# Altium footprint library ATK-2014-09-12.PcbLib: 439 footprints (part 25 of 28)
Each footprint in its own frame and in the unit in brackets; x right, y up, seen from the top. Pads: shape width x height; smd on the part's side, far side on the other; paste and mask are expansions set on the pad; w line width, h text height; cw(c..) or ccw(c..) is an arc to the next point about the centre after c.
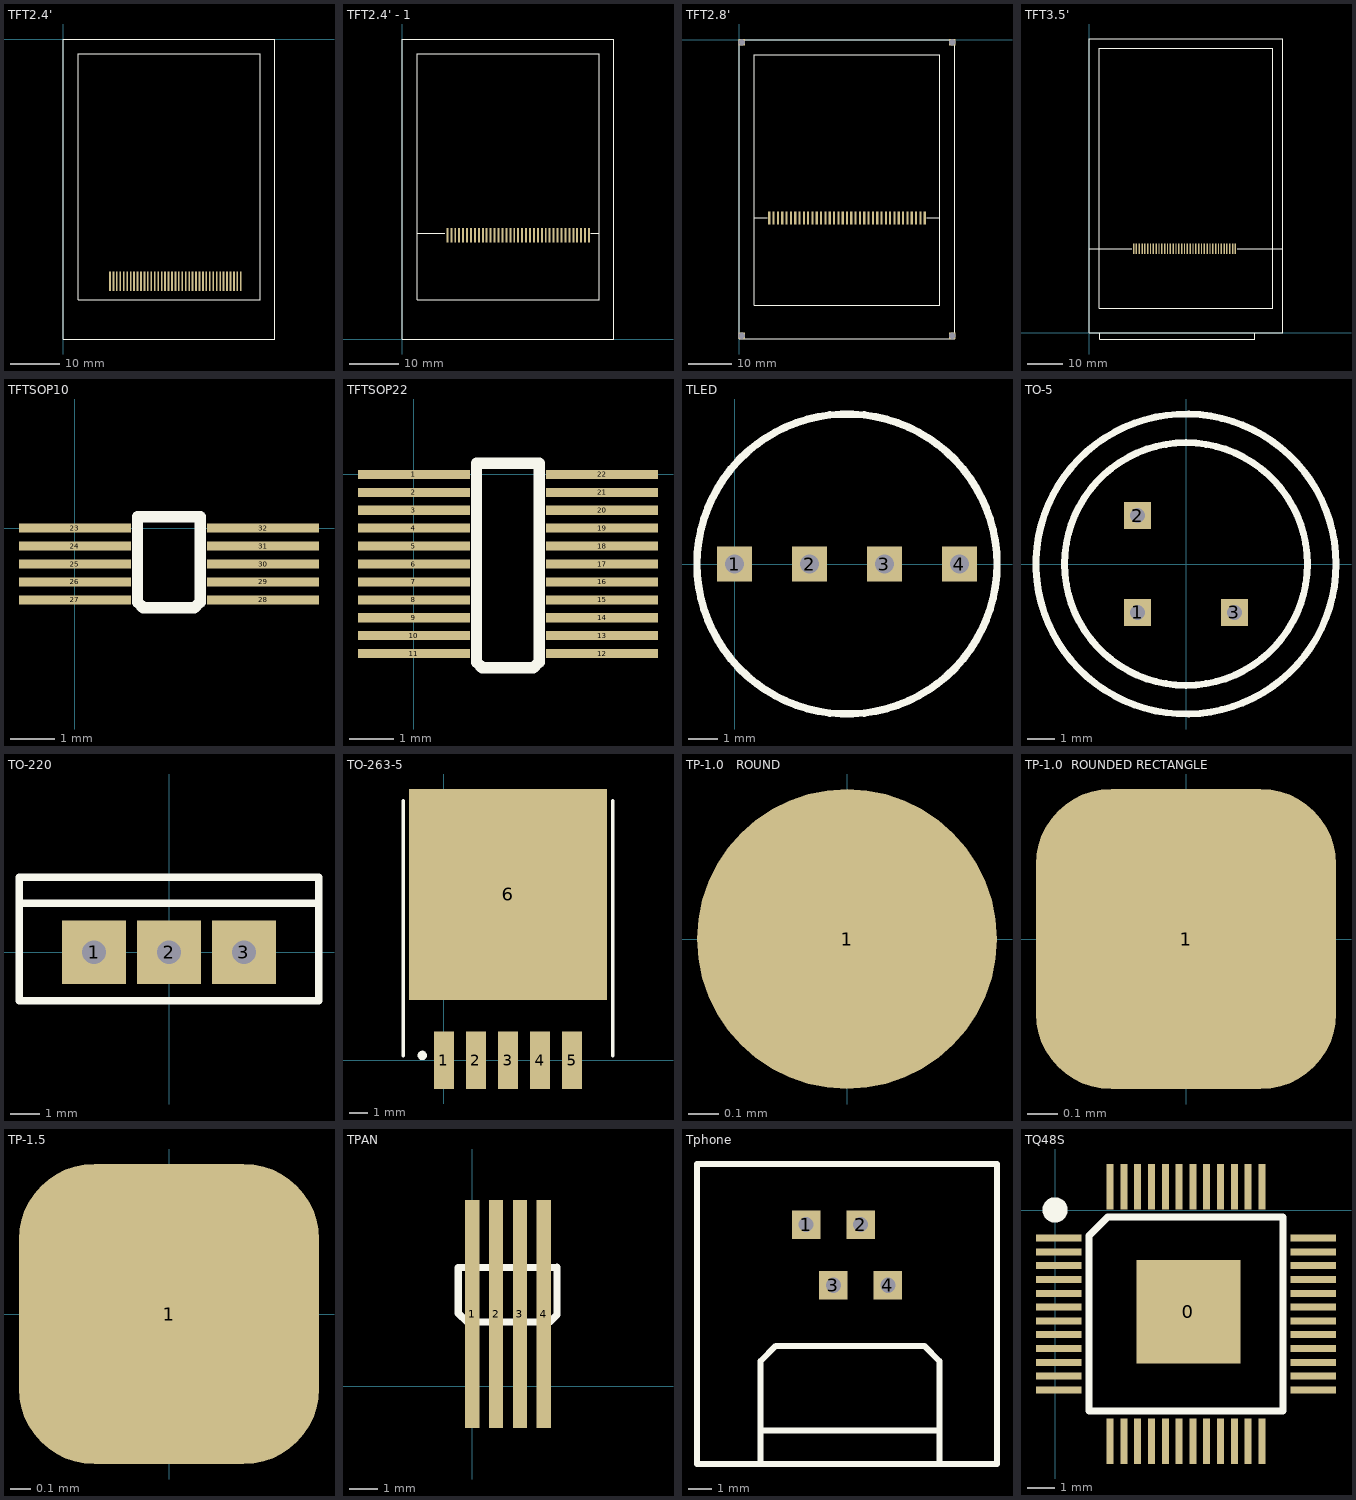
[diagram p24: the footprints below, top view; thin cyan lines are the x and y axes]

## TFT2.4' [mm] "TFT,LCD,320*240,2.4',TOUCH,8/16bit"
height 5
pads (39):
  rect 0.35x4 smd: 1(9.5,-49.25) 2(10.2,-49.25) 3(10.9,-49.25) 4(11.6,-49.25) 5(12.3,-49.25) 6(13,-49.25) 7(13.7,-49.25) 8(14.4,-49.25) 9(15.1,-49.25) 10(15.8,-49.25) 11(16.5,-49.25) 12(17.2,-49.25) 13(17.9,-49.25) 14(18.6,-49.25) 15(19.3,-49.25) 16(20,-49.25) 17(20.7,-49.25) 18(21.4,-49.25) 19(22.1,-49.25) 20(22.8,-49.25) 21(23.5,-49.25) 22(24.2,-49.25) 23(24.9,-49.25) 24(25.6,-49.25) 25(26.3,-49.25) 26(27,-49.25) 27(27.7,-49.25) 28(28.4,-49.25) 29(29.1,-49.25) 30(29.8,-49.25) 31(30.5,-49.25) 32(31.2,-49.25) 33(31.9,-49.25) 34(32.6,-49.25) 35(33.3,-49.25) 36(34,-49.25) 37(34.7,-49.25) 38(35.4,-49.25) 39(36.1,-49.25)
Top Overlay:
  lines w0.254: 0,-61 43,-61 43,0 0,0 0,-61 ; 3.048,-53.048 40.005,-53.048 40.005,-3.048 3.048,-3.048 3.048,-53.048

## TFT2.4' - 1 [mm] "TFT,LCD,320*240,2.4',TOUCH,8/16bit,GENE"
height 5
pads (37):
  rect 0.4x3 smd: 1(9.173,21.082) 2(9.973,21.082) 3(10.773,21.082) 4(11.573,21.082) 5(12.373,21.082) 6(13.173,21.082) 7(13.973,21.082) 8(14.773,21.082) 9(15.573,21.082) 10(16.373,21.082) 11(17.173,21.082) 12(17.973,21.082) 13(18.773,21.082) 14(19.573,21.082) 15(20.373,21.082) 16(21.173,21.082) 17(21.973,21.082) 18(22.773,21.082) 19(23.573,21.082) 20(24.373,21.082) 21(25.173,21.082) 22(25.973,21.082) 23(26.773,21.082) 24(27.573,21.082) 25(28.373,21.082) 26(29.173,21.082) 27(29.973,21.082) 28(30.773,21.082) 29(31.573,21.082) 30(32.373,21.082) 31(33.173,21.082) 32(33.973,21.082) 33(34.773,21.082) 34(35.573,21.082) 35(36.373,21.082) 36(37.173,21.082) 37(37.973,21.082)
Top Overlay:
  lines w0.254: 3.175,21.463 8.636,21.463 ; 38.354,21.463 40.005,21.463 ; 0,0 43,0 43,61 0,61 0,0 ; 3.048,7.952 40.005,7.952 40.005,57.952 3.048,57.952 3.048,7.952

## TFT2.8' [mm] "TFT,LCD,320*240,2.8',TOUCH,8/16bit"
height 5
pads (41):
  rect 0.5x3 smd: 1(7,-41.375) 2(8,-41.375) 3(9,-41.375) 4(10,-41.375) 5(11,-41.375) 6(12,-41.375) 7(13,-41.375) 8(14,-41.375) 9(15,-41.375) 10(16,-41.375) 11(17,-41.375) 12(18,-41.375) 13(19,-41.375) 14(20,-41.375) 15(21,-41.375) 16(22,-41.375) 17(23,-41.375) 18(24,-41.375) 19(25,-41.375) 20(26,-41.375) 21(27,-41.375) 22(28,-41.375) 23(29,-41.375) 24(30,-41.375) 25(31,-41.375) 26(32,-41.375) 27(33,-41.375) 28(34,-41.375) 29(35,-41.375) 30(36,-41.375) 31(37,-41.375) 32(38,-41.375) 33(39,-41.375) 34(40,-41.375) 35(41,-41.375) 36(42,-41.375) 37(43,-41.375)
  rect 1.5x1.5 hole 1.5: 38(49.375,-0.625) 39(0.625,-0.625) 40(49.375,-68.625) 41(0.625,-68.625)
Top Overlay:
  lines w0.254: 3.5,-41.275 6.477,-41.275 ; 43.461,-41.275 46.5,-41.275 ; 0,-69.3 50,-69.3 50,0 0,0 0,-69.3 ; 3.5,-61.6 46.5,-61.6 46.5,-3.5 3.5,-3.5 3.5,-61.6

## TFT3.5' [mm] "TFT,LCD,480*320,3.5',TOUCH,16bit"
height 3.5
pads (37):
  rect 0.4x3 smd: 1(12.526,23.749) 2(13.326,23.749) 3(14.126,23.749) 4(14.926,23.749) 5(15.726,23.749) 6(16.526,23.749) 7(17.326,23.749) 8(18.126,23.749) 9(18.926,23.749) 10(19.726,23.749) 11(20.526,23.749) 12(21.326,23.749) 13(22.126,23.749) 14(22.926,23.749) 15(23.726,23.749) 16(24.526,23.749) 17(25.326,23.749) 18(26.126,23.749) 19(26.926,23.749) 20(27.726,23.749) 21(28.526,23.749) 22(29.326,23.749) 23(30.126,23.749) 24(30.926,23.749) 25(31.726,23.749) 26(32.526,23.749) 27(33.326,23.749) 28(34.126,23.749) 29(34.926,23.749) 30(35.726,23.749) 31(36.526,23.749) 32(37.326,23.749) 33(38.126,23.749) 34(38.926,23.749) 35(39.726,23.749) 36(40.526,23.749) 37(41.326,23.749)
Top Overlay:
  lines w0.203: 0,23.7 12.065,23.7 ; 3,0 3,-1.8 46.736,-1.8 46.736,0 ; 41.783,23.7 54.651,23.7 ; 0,0 0,83 54.7,83 54.7,0 0,0 ; 2.85,6.951 2.85,80.391 51.85,80.391 51.85,6.951 2.85,6.951

## TFTSOP10 [mm]
pads (10):
  rect 2.5x0.203 smd: 23(0,0) 24(0,-0.4) 25(0,-0.8) 26(0,-1.2) 27(0,-1.6) 28(4.2,-1.6) 29(4.2,-1.2) 30(4.2,-0.8) 31(4.2,-0.4) 32(4.2,0)
Top Overlay:
  lines w0.254: 1.397,-1.651 1.397,0.254 2.794,0.254 2.794,-1.651 2.667,-1.778 1.524,-1.778 1.397,-1.651

## TFTSOP22 [mm]
pads (22):
  rect 2.5x0.203 smd: 1(0,0) 2(0,-0.4) 3(0,-0.8) 4(0,-1.2) 5(0,-1.6) 6(0,-2) 7(0,-2.4) 8(0,-2.8) 9(0,-3.2) 10(0,-3.6) 11(0,-4) 12(4.2,-4) 13(4.2,-3.6) 14(4.2,-3.2) 15(4.2,-2.8) 16(4.2,-2.4) 17(4.2,-2) 18(4.2,-1.6) 19(4.2,-1.2) 20(4.2,-0.8) 21(4.2,-0.4) 22(4.2,0)
Top Overlay:
  lines w0.254: 1.397,-4.191 1.524,-4.318 2.667,-4.318 2.794,-4.191 2.794,0.254 1.397,0.254 1.397,-4.191

## TLED [mm] "LED"
height 10
pads (4):
  rect 1.2x1.2 hole 0.635: 1(0,0) 2(2.54,0) 3(5.08,0) 4(7.62,0)
Top Overlay:
  circle w0.254: c3.81,0 r5.082

## TO-5 [mm]
height 15.1
pads (3):
  rect 1x1 hole 0.55: 1(-1.778,-1.778) 2(-1.778,1.778) 3(1.778,-1.778)
Top Overlay:
  circle w0.254: c0,0 r5.5
  circle w0.254: c0,0 r4.45

## TO-220 [mil] "TO-220"
height 1181.1
pads (3):
  rect 85x85 hole 31.5: 1(-100,0) 2(0,0) 3(100,0)
Top Overlay:
  lines w10: -200,65 100,65 200,65 ; -200,65 -200,-65 200,-65 200,65 ; -200,65 -200,100 200,100 200,65

## TO-263-5 [mil]
height 47.24
pads (6):
  rect 42x120 smd: 1(0,0) 2(66.93,0) 3(133.86,0) 4(200.79,0) 5(267.72,0)
  rect 414x440 smd: 6(133.86,346)
Top Overlay:
  circle w9.84: c-44.92,10 r4.92
  lines w7.87: -84.65,10 -84.65,541.5 ; 352.36,10 352.36,541.5

## TP-1.0   ROUND [mm] "1.0mm"
pads (1):
  round 1 smd: 1(0,0)

## TP-1.0  ROUNDED RECTANGLE [mm]
pads (1):
  rrect50% 1x1 smd: 1(0,0)

## TP-1.5 [mm] "1.5mm"
pads (1):
  rrect50% 1.5x1.5 smd: 1(0,0)

## TPAN [mm] "TOUCH SCREEN"
pads (4):
  rect 0.5x8 smd: 1(0,2.54) 2(0.838,2.54) 3(1.676,2.54) 4(2.515,2.54)
Top Overlay:
  lines w0.254: -0.483,2.565 -0.178,2.261 2.718,2.261 2.972,2.515 2.972,4.191 2.946,4.166 -0.483,4.166 -0.483,2.565

## Tphone [mm] "Tphone"
height 13
pads (4):
  rect 1.2x1.2 hole 0.635: 1(5.842,-5.08) 2(8.128,-5.08) 3(6.985,-7.62) 4(9.271,-7.62)
Top Overlay:
  lines w0.254: 3.937,-15.113 3.937,-10.795 4.572,-10.16 10.795,-10.16 11.43,-10.795 11.43,-15.113 ; 3.937,-13.716 11.43,-13.716 ; 12.192,-15.113 12.7,-15.113 ; 13.843,-12.446 13.843,-2.54 2.921,-2.54 1.27,-2.54 1.27,-12.446 1.27,-15.113 13.843,-15.113 13.843,-11.811

## TQ48S [mil] "TQ48S"
pads (49):
  rect 147.64x147.64 smd: 0(190,-145)
  rect 65x10 smd: 1(5.42,-39.71) 2(5.42,-59.39) 3(5.42,-79.08) 4(5.42,-98.76) 5(5.42,-118.45) 6(5.42,-138.13) 7(5.42,-157.82) 8(5.42,-177.5) 9(5.42,-197.19) 10(5.42,-216.87) 11(5.42,-236.56) 12(5.42,-256.24) 25(367.63,-256.24) 26(367.63,-236.56) 27(367.63,-216.87) 28(367.63,-197.19) 29(367.63,-177.5) 30(367.63,-157.82) 31(367.63,-138.13) 32(367.63,-118.45) 33(367.63,-98.76) 34(367.63,-79.08) 35(367.63,-59.39) 36(367.63,-39.71)
  rect 10x65 smd: 13(78.26,-329.08) 14(97.94,-329.08) 15(117.63,-329.08) 16(137.31,-329.08) 17(157,-329.08) 18(176.68,-329.08) 19(196.37,-329.08) 20(216.05,-329.08) 21(235.74,-329.08) 22(255.42,-329.08) 23(275.11,-329.08) 24(294.79,-329.08) 37(294.79,33.13) 38(275.11,33.13) 39(255.42,33.13) 40(235.74,33.13) 41(216.05,33.13) 42(196.37,33.13) 43(176.68,33.13) 44(157,33.13) 45(137.31,33.13) 46(117.63,33.13) 47(97.94,33.13) 48(78.26,33.13)
Top Overlay:
  circle w25: c0.07,0.29 r5.35
  lines w10: 48.73,-285.77 48.73,-36.4 74.95,-10.18 324.32,-10.18 324.32,-285.77 48.73,-285.77